# Altium footprint library pcb_PassiveRes.PcbLib: 32 footprints (part 2 of 2)
Each footprint in its own frame and in the unit in brackets; x right, y up, seen from the top. Pads: shape width x height; smd on the part's side, far side on the other; paste and mask are expansions set on the pad; w line width, h text height; cw(c..) or ccw(c..) is an arc to the next point about the centre after c.
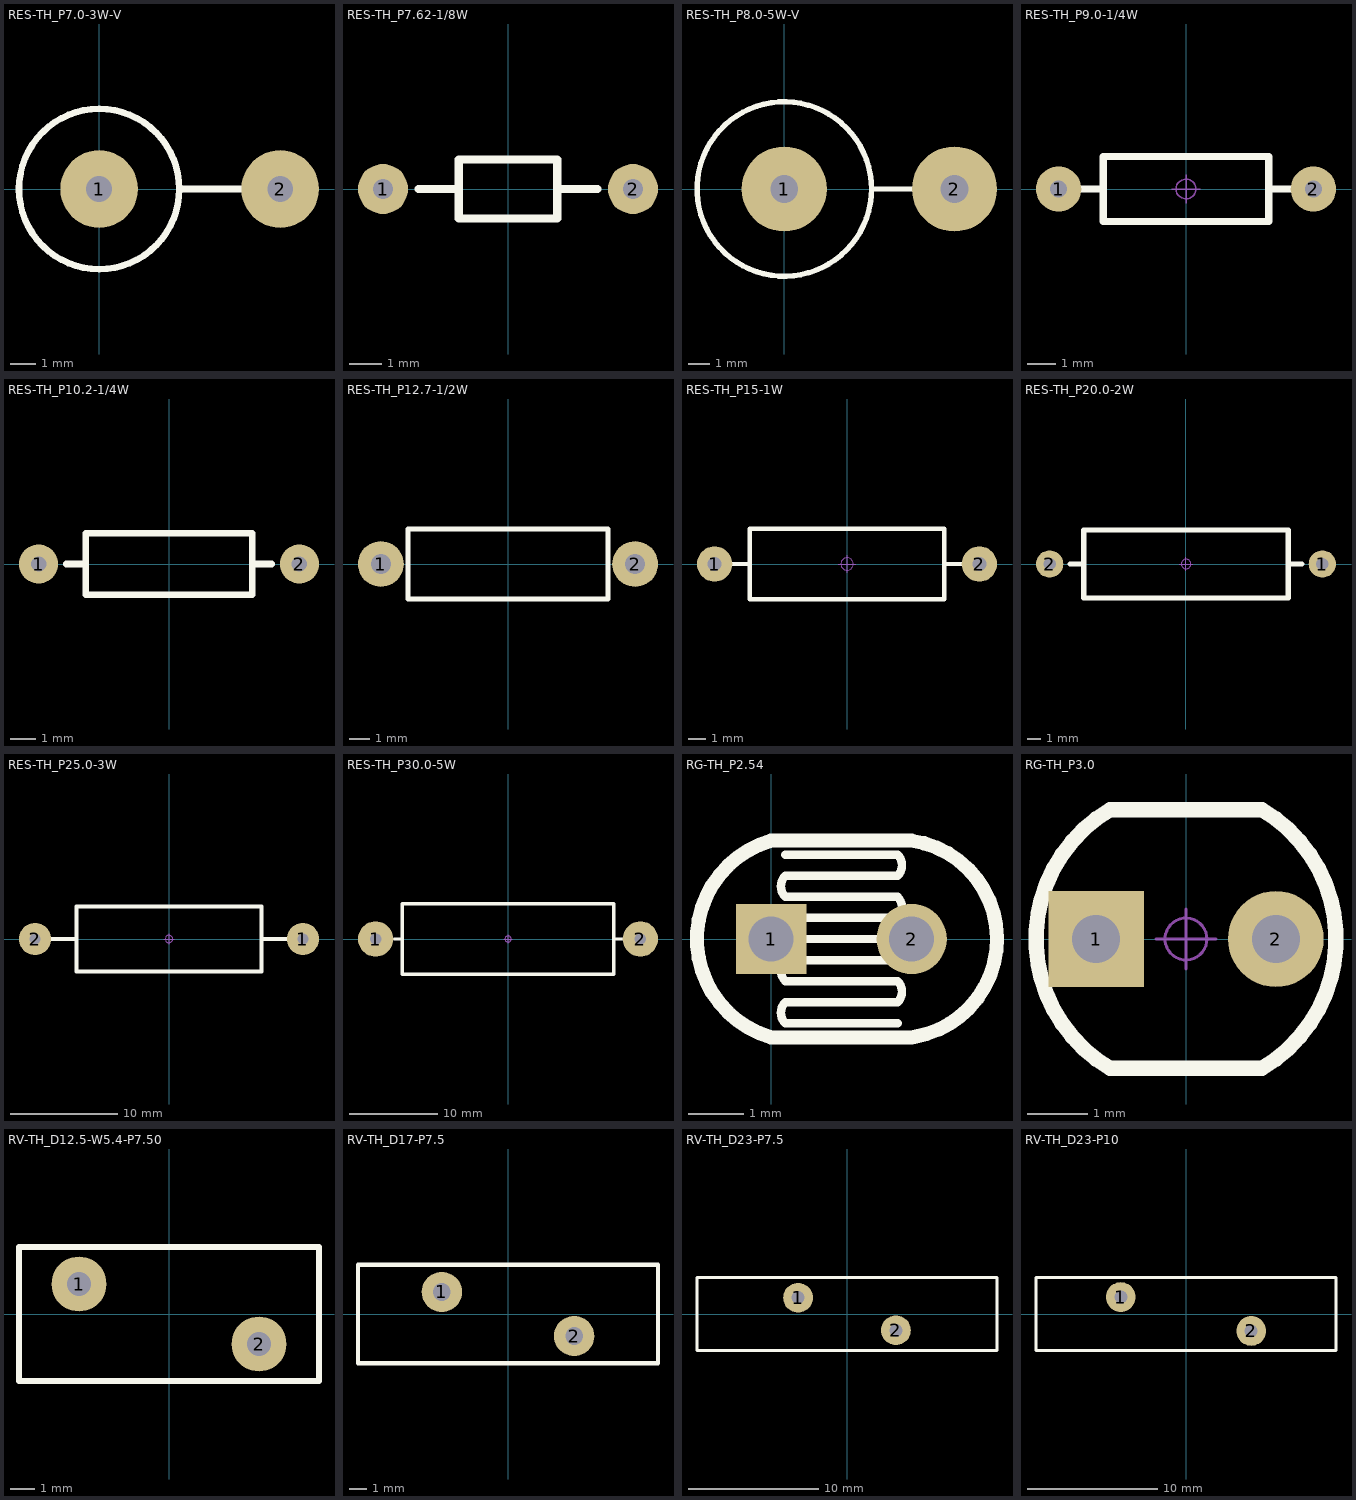
[diagram p1: the footprints below, top view; thin cyan lines are the x and y axes]

## RES-TH_P7.0-3W-V [mm] "直插色环电阻，脚距7mm，直径6mm"
pads (2):
  round 3 hole 1: 1(0,0) 2(7,0)
Top Overlay:
  circle w0.254: c0,0 r3.1
  lines w0.254: 3.1,0 6.2,0
Mechanical 15:
  circle w0.05: c0,0 r0.35
  lines w0.05: -0.5,0 0.5,0 ; 0,-0.5 0,0.5
Mechanical 16:
  text ".Designator" at 0,0 h1
3D body "RS 3W-V7.STEP": height 19.9, standoff -3.5, extent -3.01,-3.01 7.4,3.01

## RES-TH_P7.62-1/8W [mil] "Resistor, 0.125W"
height 70.87
pads (2):
  round 60 hole 23.62: 1(-150,0) 2(150,0)
Top Overlay:
  lines w10: -107.48,0 -59.06,0 ; 59.06,0 107.48,0 ; -59.06,-35.43 -59.06,35.43 59.06,35.43 59.06,-35.43 -59.06,-35.43
Mechanical 16:
  text ".Designator" at 0,0 h39.37
3D body "RES 300mils.STEP": height 71.65, standoff -160.63, extent -157.87,-35.43 157.09,35.43

## RES-TH_P8.0-5W-V [mm] "直插色环电阻，脚距8mm，直径8mm"
pads (2):
  round 4 hole 1.3: 1(0,0) 2(8,0)
Top Overlay:
  circle w0.254: c0,0 r4.1
  lines w0.254: 4.1,0 6.25,0
Mechanical 15:
  circle w0.05: c0,0 r0.35
  lines w0.05: -0.5,0 0.5,0 ; 0,-0.5 0,0.5
Mechanical 16:
  text ".Designator" at 0,0 h1
3D body "RS 5W-V8.STEP": height 27.3, standoff -3.5, extent -4.01,-4.01 8.5,4.01

## RES-TH_P9.0-1/4W [mm] "直插色环电阻，脚距9mm，直径2.3mm"
pads (2):
  round 1.6 hole 0.6: 1(-4.5,0) 2(4.5,0)
Top Overlay:
  lines w0.254: -3.683,0 -3.048,0 ; 3.048,0 3.683,0 ; -2.921,-1.143 2.921,-1.143 2.921,1.143 -2.921,1.143 -2.921,-1.143
Mechanical 15:
  circle w0.05: c0,0 r0.35
  lines w0.05: -0.5,0 0.5,0 ; 0,-0.5 0,0.5
Mechanical 16:
  text ".Designator" at 0,0 h1
3D body "RS 1-4W.STEP": height 2.32, standoff -3.49, extent -4.725,-1.16 4.725,1.16

## RES-TH_P10.2-1/4W [mil] "Resistor, 0.25W"
height 94.49
pads (2):
  round 60 hole 23.62: 1(-200,0) 2(200,0)
Top Overlay:
  lines w10: -157.48,0 -127.95,0 ; 127.95,0 157.48,0 ; -127.95,-47.24 127.95,-47.24 127.95,47.24 -127.95,47.24 -127.95,-47.24
Mechanical 16:
  text ".Designator" at 0,0 h39.37
3D body "RES 400mils.STEP": height 91.88, standoff -123.62, extent -212.01,-45.47 211.99,45.53

## RES-TH_P12.7-1/2W [mil] "Resistor, 0.5W"
height 137.8
pads (2):
  round 90 hole 39.37: 1(-250,0) 2(250,0)
Top Overlay:
  lines w10: -196.85,-68.9 196.85,-68.9 196.85,68.9 -196.85,68.9 -196.85,-68.9
Mechanical 16:
  text ".Designator" at 0,0 h39.37
3D body "RES0.5W 600mils.STEP": height 137.8, standoff -118.11, extent -260.63,-68.9 260.63,68.9

## RES-TH_P15-1W [mm] "直插色环电阻，脚距15mm，直径4mm"
pads (2):
  round 2 hole 0.8: 1(-7.5,0) 2(7.5,0)
Top Overlay:
  lines w0.254: -6.5,0 -5.5,0 ; 5.5,0 6.5,0 ; -5.5,-2 5.5,-2 5.5,2 -5.5,2 -5.5,-2
Mechanical 15:
  circle w0.05: c0,0 r0.35
  lines w0.05: -0.5,0 0.5,0 ; 0,-0.5 0,0.5
Mechanical 16:
  text ".Designator" at 0,0 h1
3D body "RS 1W.STEP": height 4.11, standoff -3.4, extent -7.8,-2.01 7.8,2.01

## RES-TH_P20.0-2W [mm] "直插色环电阻，脚距20mm，直径5mm"
pads (2):
  round 2 hole 0.9: 1(10,0) 2(-10,0)
Top Overlay:
  lines w0.381: -8.5,0 -7.5,0 ; 7.628,0 8.5,0 ; -7.5,-2.5 7.5,-2.5 7.5,2.5 -7.5,2.5 -7.5,-2.5
Mechanical 15:
  circle w0.05: c0,0 r0.35
  lines w0.05: -0.5,0 0.5,0 ; 0,-0.5 0,0.5
Mechanical 16:
  text ".Designator" at 0,0 h1
3D body "RS 2W.STEP": height 5.11, standoff -3.4, extent -10.4,-2.51 10.4,2.51

## RES-TH_P25.0-3W [mm] "直插色环电阻，脚距25mm，直径6mm"
pads (2):
  round 3 hole 1: 1(12.5,0) 2(-12.5,0)
Top Overlay:
  lines w0.381: -10.922,0 -8.636,0 ; 8.636,0 11.049,0 ; -8.636,-3.048 -8.636,3.048 8.636,3.048 8.636,-3.048 -8.636,-3.048
Mechanical 15:
  circle w0.05: c0,0 r0.35
  lines w0.05: -0.5,0 0.5,0 ; 0,-0.5 0,0.5
Mechanical 16:
  text ".Designator" at 0,0 h1
3D body "RS 3W.STEP": height 6.11, standoff -3.4, extent -12.9,-3.01 12.9,3.01

## RES-TH_P30.0-5W [mm] "直插色环电阻，脚距30mm，直径8mm"
pads (2):
  round 4 hole 1.3: 1(-15,0) 2(15,0)
Top Overlay:
  lines w0.381: -12.922,0 -12,0 ; 12,0 13,0 ; -12,-4 12,-4 12,4 -12,4 -12,-4
Mechanical 15:
  circle w0.05: c0,0 r0.35
  lines w0.05: -0.5,0 0.5,0 ; 0,-0.5 0,0.5
Mechanical 16:
  text ".Designator" at 0,0 h1
3D body "RS 5W.STEP": height 8.11, standoff -3.4, extent -15.5,-4.01 15.5,4.01

## RG-TH_P2.54 [mil] "光敏电阻"
pads (2):
  rect 50x50 hole 32: 1(0,0)
  round 50 hole 32: 2(100,0)
Top Overlay:
  lines w6: 10,60 90,60 cw(c82.5,52.5) 90,45 10,45 ccw(c17.5,37.5) 10,30 90,30 cw(c82.5,22.5) 90,15 10,15 ccw(c17.5,7.5) 10,0 90,0 cw(c82.5,-7.5) 90,-15 10,-15 ccw(c17.5,-22.5) 10,-30 90,-30 cw(c82.5,-37.5) 90,-45 10,-45 ccw(c17.5,-52.5) 10,-60 90,-60
  lines w10: 100,-70 0,-70 cw(c20,0) 0,70 100,70 cw(c90,0) 101.62,-69.75
Mechanical 16:
  text ".Designator" at 0,0 h39.37
3D body "RG5528.STEP": height 74.8, standoff -135.83, extent -43.43,-84.65 153.43,84.65

## RG-TH_P3.0 [mm] "光敏电阻 脚距：3mm"
pads (2):
  rect 1.6x1.6 hole 0.8: 1(-1.5,0)
  round 1.6 hole 0.8: 2(1.5,0)
Top Overlay:
  lines w0.254: -1.27,-2.159 cw(c0,0) -1.27,2.159 1.27,2.159 cw(c0,0) 1.27,-2.159 -1.27,-2.159
Mechanical 15:
  circle w0.05: c0,0 r0.35
  lines w0.05: -0.5,0 0.5,0 ; 0,-0.5 0,0.5
Mechanical 16:
  text ".Designator" at 0,0 h1
3D body "RG5528.STEP": height 1.9, standoff -3.45, extent -2.5,-2.15 2.5,2.15

## RV-TH_D12.5-W5.4-P7.50 [mm] "Varistor, 10mm"
height 16
pads (2):
  round 2.286 hole 1: 1(-3.75,1.25) 2(3.75,-1.25)
Top Overlay:
  lines w0.254: -6.25,-2.8 -6.25,2.8 6.25,2.8 6.25,-2.8 -6.25,-2.8
Mechanical 16:
  text ".Designator" at 0,0 h1
3D body "VARISTOR-10mm.step": height 16, standoff -3, extent -6.25,-2.8 6.25,2.8

## RV-TH_D17-P7.5 [mm] "Varistor, 14mm"
height 20
pads (2):
  round 2.286 hole 1: 1(-3.75,1.25) 2(3.75,-1.25)
Top Overlay:
  lines w0.254: -8.5,-2.8 8.5,-2.8 8.5,2.8 -8.5,2.8 -8.5,-2.8
Mechanical 16:
  text ".Designator" at 0,0 h1
3D body "VARISTOR-14mm.step": height 20, standoff -3, extent -8.5,-2.8 8.499,2.8

## RV-TH_D23-P7.5 [mm] "Varistor, 20mm"
height 26.5
pads (2):
  round 2.286 hole 1: 1(-3.75,1.25) 2(3.75,-1.25)
Top Overlay:
  lines w0.254: -11.5,-2.8 -11.5,2.8 11.5,2.8 11.5,-2.8 -11.5,-2.8
Mechanical 16:
  text ".Designator" at 0,0 h1
3D body "VARISTOR-20mm.step": height 26.5, standoff -3, extent -11.5,-2.8 11.5,2.8

## RV-TH_D23-P10 [mm] "Varistor, 20mm"
height 26.5
pads (2):
  round 2.286 hole 1: 1(-5,1.3) 2(5,-1.3)
Top Overlay:
  lines w0.254: -11.5,-2.8 11.5,-2.8 11.5,2.8 -11.5,2.8 -11.5,-2.8
Mechanical 16:
  text ".Designator" at 0,0 h1
3D body "VARISTOR-20mm-2.STEP": height 24.7, standoff -2.79, extent -10.756,-2.898 10.744,2.9